# EAGLE library part WIRELESS-BLUETOOTH-BK8000 (library diy-modules)
Bluetooth Audio Module based on BK8000L chip More details available here: http://www.electrodragon.com/w/BK8000L Click here to find device on ebay.com <http://www.ebay.com/sch/bk8000l+module>
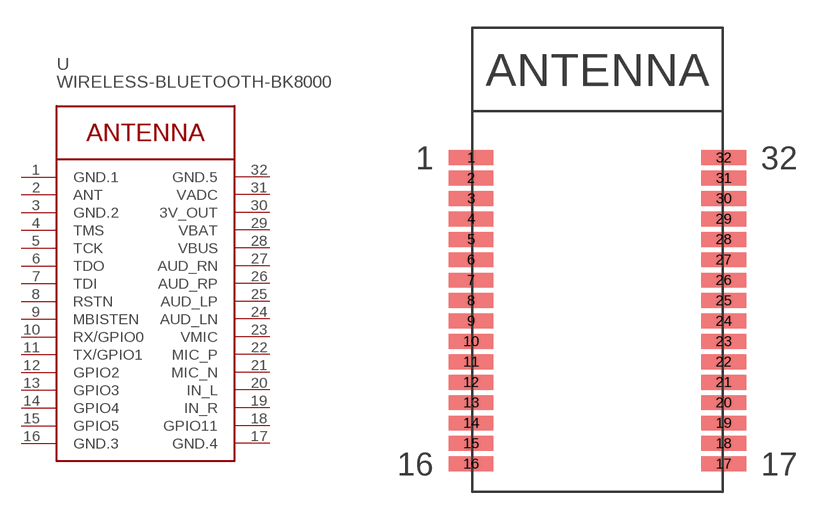
[diagram p2: symbol with the pads of WIRELESS-BLUETOOTH-BK8000; footprint WIRELESS-BLUETOOTH-BK8000]

Designator prefix -

## WIRELESS-BLUETOOTH-BK8000  [WIRELESS-BLUETOOTH-BK8000]
1  GND.1  pwr
2  ANT  pas
3  GND.2  pwr
4  TMS
5  TCK
6  TDO
7  TDI
8  RSTN
9  MBISTEN
10  RX/GPIO0
11  TX/GPIO1
12  GPIO2
13  GPIO3
14  GPIO4
15  GPIO5
16  GND.3  pwr
17  GND.4  pwr
18  GPIO11
19  IN_R  in
20  IN_L  in
21  MIC_N  in
22  MIC_P  in
23  VMIC  pas
24  AUD_LN  out
25  AUD_LP  out
26  AUD_RP  out
27  AUD_RN  out
28  VBUS  pas
29  VBAT  pas
30  3V_OUT  pwr
31  VADC  pwr
32  GND.5  pwr

## Footprint WIRELESS-BLUETOOTH-BK8000 (pad centres in mm)
Bluetooth Audio Module based on BK8000L chip
smd 2.4 x 0.8: 1 -6.8,5.5; 2 -6.8,4.4; 3 -6.8,3.3; 4 -6.8,2.2; 5 -6.8,1.1; 6 -6.8,0; 7 -6.8,-1.1; 8 -6.8,-2.2; 9 -6.8,-3.3; 10 -6.8,-4.4; 11 -6.8,-5.5; 12 -6.8,-6.6; 13 -6.8,-7.7; 14 -6.8,-8.8; 15 -6.8,-9.9; 16 -6.8,-11; 17 6.8,-11; 18 6.8,-9.9; 19 6.8,-8.8; 20 6.8,-7.7; 21 6.8,-6.6; 22 6.8,-5.5; 23 6.8,-4.4; 24 6.8,-3.3; 25 6.8,-2.2; 26 6.8,-1.1; 27 6.8,0; 28 6.8,1.1; 29 6.8,2.2; 30 6.8,3.3; 31 6.8,4.4; 32 6.8,5.5